# Altium schematic symbol library PSSL3.SchLib: 176 symbols (part 1 of 3)
Pins are listed as number, name and electrical type; pins without a type are passive.

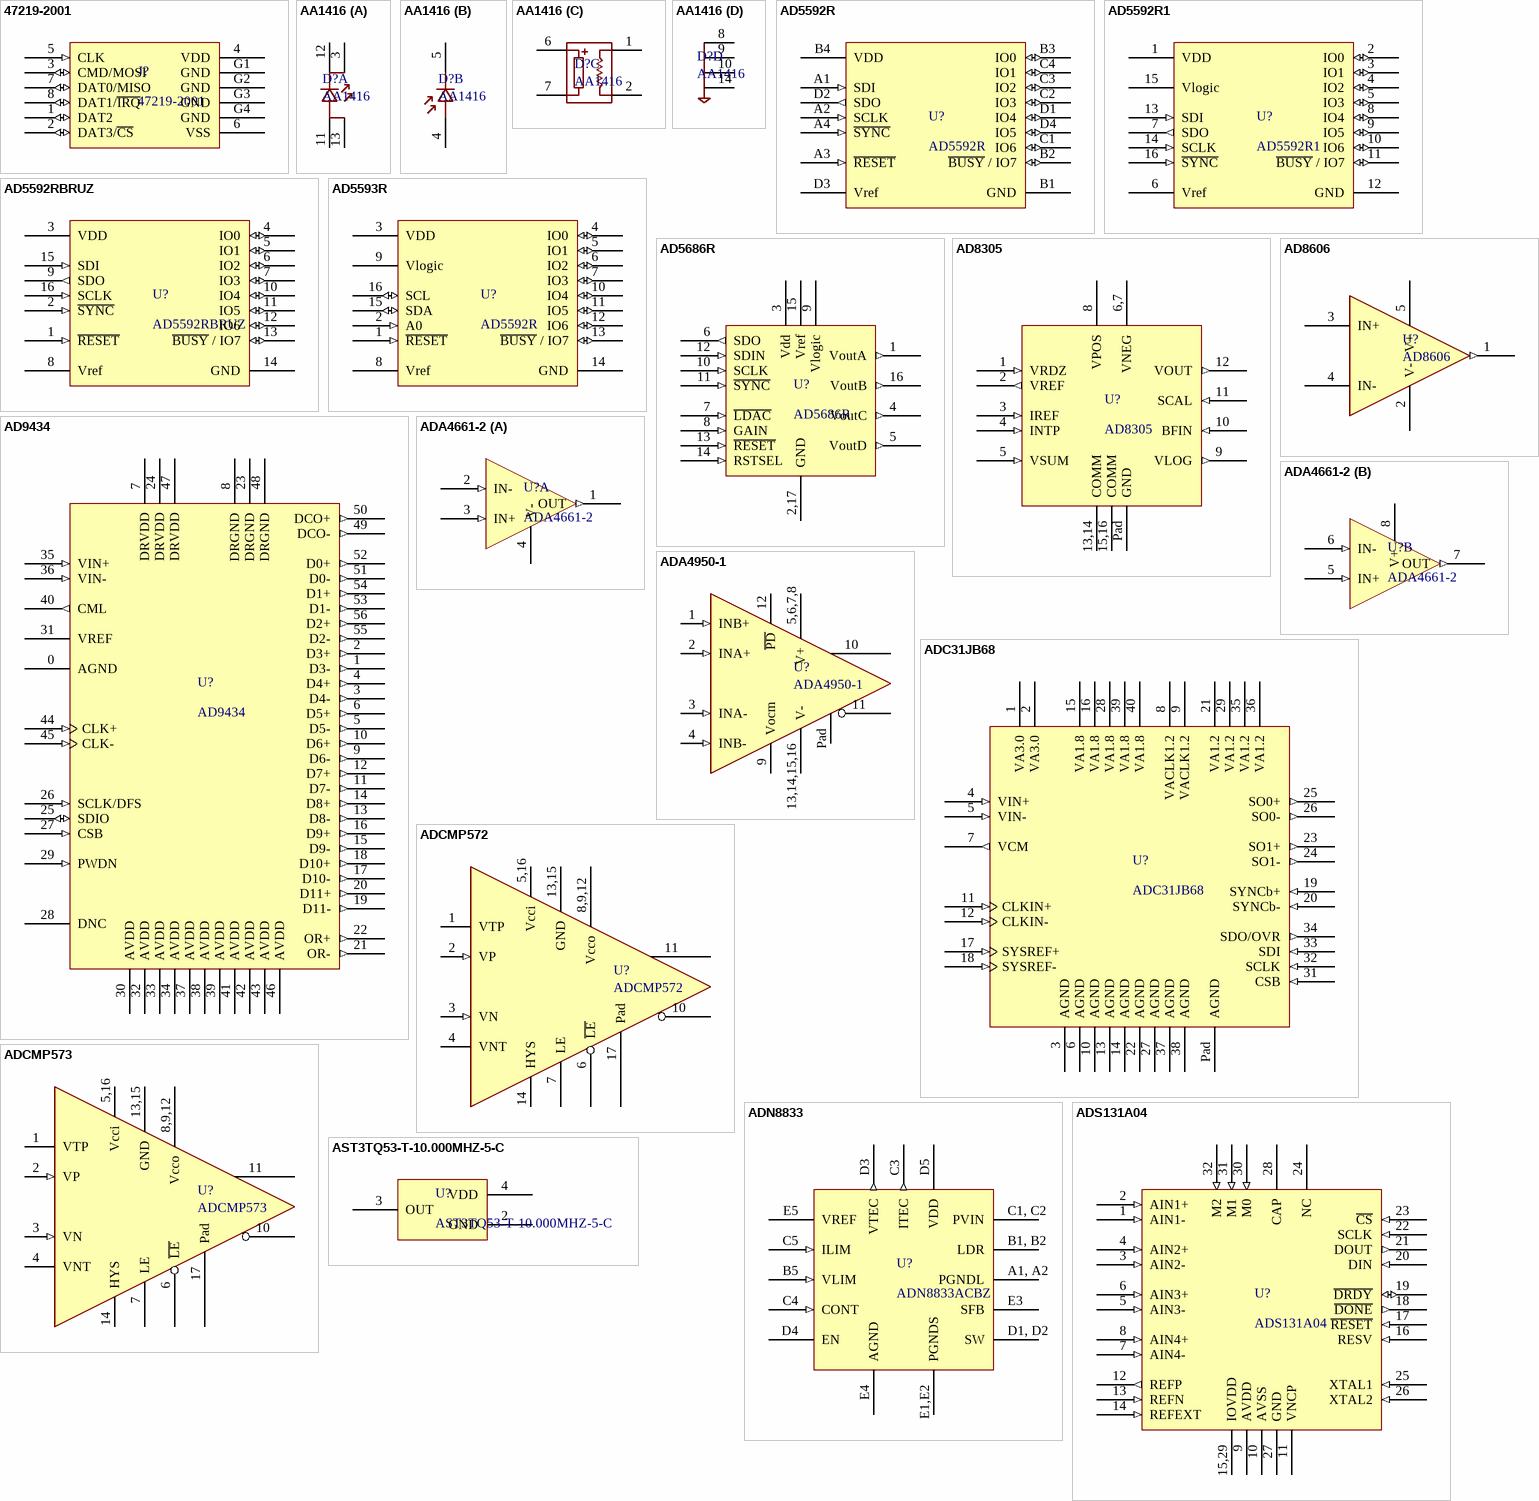
[diagram p0: symbols 47219-2001 to AST3TQ53-T-10.000MHZ-5-C]

## 47219-2001
designator J?
microSD Card Connector, Hinge Type; Ref: 47219-2001
footprint 47219-2001 (MOLEX 47219-2001)
pins: 1 DAT2 (io) "Enable auto restart", 2 DAT3/~{CS} (io) "Output Fault Indicator", 3 CMD/MOSI (io) "Output Fault Indicator", 4 VDD (power) "Output Fault Indicator", 5 CLK (in) "Output Fault Indicator", 6 VSS (power) "Output Fault Indicator", 7 DAT0/MISO (io) "Output Fault Indicator", 8 DAT1/~{IRQ} (io) "Output Fault Indicator", G1 GND (power) "Ground", G2 GND (power) "Ground", G3 GND (power) "Ground", G4 GND (power) "Ground"

## AA1416
designator D?
201 3.6V 250mW Zener Diode; Ref: AA1416
footprint GH High Power DFB Laser AA1401 (Laser Pulser)
part A pins: 3, 11, 12, 13
part B pins: 4, 5
part C pins: 1, 2, 6, 7
part D pins: 8, 9, 10, 14

## AD5592R
designator U?
8-Channel, 12-Bit, Configurable ADC/DAC with On-Chip Reference, SPI Interface; Ref: AD5592R
footprint BGA 16 3 (4x4 BGA)
footprint LFCSP CP 16 2 (Analog devive package LFCSP CP 16 2); pin to pad A1>15 A2>16 A3>1 A4>2 B1>14 B2>13 B3>4 B4>3 C1>12 C2>7 C3>6 C4>5 D1>10 D2>9 D3>8 D4>11
pins: A1 SDI (in) "Polarity selection", A2 SCLK (in) "Polarity selection", A3 ~{RESET} (in) "Polarity selection", A4 ~{SYNC} (in) "Polarity selection", B1 GND (power) "Polarity selection", B2 ~{BUSY} / IO7 (io) "Polarity selection", B3 IO0 (io) "Polarity selection", B4 VDD (power) "Polarity selection", C1 IO6 (io) "Polarity selection", C2 IO3 (io) "Polarity selection", C3 IO2 (io) "Polarity selection", C4 IO1 (io) "Polarity selection", D1 IO4 (io) "Polarity selection", D2 SDO (out) "Polarity selection", D3 Vref (hiz) "Polarity selection", D4 IO5 (io) "Polarity selection"

## AD5592R1
designator U?
8-Channel, 12-Bit, Configurable ADC/DAC with On-Chip Reference, SPI Interface; Ref: AD5592R1
footprint LFCSP CP 16 2 (Analog devive package LFCSP CP 16 2); pin to pad 1>3 2>4 3>5 4>6 5>7 6>8 7>9 8>10 9>11 10>12 11>13 12>14 13>15 14>16 16>2
pins: 1 VDD (power) "Polarity selection", 2 IO0 (io) "Polarity selection", 3 IO1 (io) "Polarity selection", 4 IO2 (io) "Polarity selection", 5 IO3 (io) "Polarity selection", 6 Vref (hiz) "Polarity selection", 7 SDO (out) "Polarity selection", 8 IO4 (io) "Polarity selection", 9 IO5 (io) "Polarity selection", 10 IO6 (io) "Polarity selection", 11 ~{BUSY} / IO7 (io) "Polarity selection", 12 GND (power) "Polarity selection", 13 SDI (in) "Polarity selection", 14 SCLK (in) "Polarity selection", 15 Vlogic (power) "Polarity selection", 16 ~{SYNC} (in) "Polarity selection"

## AD5592RBRUZ
designator U?
8-Channel, 12-Bit, Configurable ADC/DAC with On-Chip Reference, SPI Interface, TSSOP; Ref: AD5592RBRUZ
pins: 1 ~{RESET} (in) "Polarity selection", 2 ~{SYNC} (in) "Polarity selection", 3 VDD (power) "Polarity selection", 4 IO0 (io) "Polarity selection", 5 IO1 (io) "Polarity selection", 6 IO2 (io) "Polarity selection", 7 IO3 (io) "Polarity selection", 8 Vref (hiz) "Polarity selection", 9 SDO (out) "Polarity selection", 10 IO4 (io) "Polarity selection", 11 IO5 (io) "Polarity selection", 12 IO6 (io) "Polarity selection", 13 ~{BUSY} / IO7 (io) "Polarity selection", 14 GND (power) "Polarity selection", 15 SDI (in) "Polarity selection", 16 SCLK (in) "Polarity selection"

## AD5593R
designator U?, comment AD5592R
8-Channel, 12-Bit, Configurable ADC/DAC with On-Chip Reference, I2C Interface; Ref: AD5592R
footprint TSSOP16
pins: 1 ~{RESET} (in) "Polarity selection", 2 A0 (in) "Polarity selection", 3 VDD (power) "Polarity selection", 4 IO0 (io) "Polarity selection", 5 IO1 (io) "Polarity selection", 6 IO2 (io) "Polarity selection", 7 IO3 (io) "Polarity selection", 8 Vref (hiz) "Polarity selection", 9 Vlogic (power) "Polarity selection", 10 IO4 (io) "Polarity selection", 11 IO5 (io) "Polarity selection", 12 IO6 (io) "Polarity selection", 13 ~{BUSY} / IO7 (io) "Polarity selection", 14 GND (power) "Polarity selection", 15 SDA (io) "Polarity selection", 16 SCL (io) "Polarity selection"

## AD5686R
designator U?
Quad, 16-Bit DAC with 2 ppm/°C Reference, SPI Interface; Ref: AD5686R
footprint LFCSP CP 16 2 (Analog devive package LFCSP CP 16 2)
pins: 1 VoutA (out), 2,17 GND (power) "Power input", 3 Vdd (power) "Polarity selection", 4 VoutC (out), 5 VoutD (out), 6 SDO (out) "Polarity selection", 7 ~{LDAC} (in) "Polarity selection", 8 GAIN (in) "Polarity selection", 9 Vlogic (power) "Polarity selection", 10 SCLK (in) "Polarity selection", 11 ~{SYNC} (in) "Polarity selection", 12 SDIN (in) "Polarity selection", 13 ~{RESET} (in) "Polarity selection", 14 RSTSEL (in) "Polarity selection", 15 Vref (power) "Polarity selection", 16 VoutB (out), 17 GND (power) "Power input"

## AD8305
designator U?
100 dB Range (10 nA to 1 mA) Logarithmic Converter; Ref: AD8305
footprint LFCSP CP 16 2 (Analog devive package LFCSP CP 16 2)
pins: 1 VRDZ (in) "Polarity selection", 2 VREF (out) "Polarity selection", 3 IREF (in) "Polarity selection", 4 INTP (in) "Polarity selection", 5 VSUM (in) "Polarity selection", 6,7 VNEG (power) "Polarity selection", 8 VPOS (power) "Polarity selection", 9 VLOG (out), 10 BFIN (in), 11 SCAL (in), 12 VOUT (out), 13,14 COMM (power) "Power input", 15,16 COMM (power) "Power input", Pad GND (power) "Power input"

## AD8606
designator U?
Precision, Low Noise, CMOS, Rail-to-Rail, Input/Output Operational Amplifiers; Ref: AD8606
footprint TSOT-23-5
pins: 1 OUT (out), 2 V-, 3 IN+ (hiz), 4 IN- (hiz), 5 V+

## AD9434
designator U?
Single 12-Bit, 370 MSPS/500 MSPS, 1.8 V Analog-to-Digital Converter; Ref: AD9434
footprint LFCSP CP 56 5 (Analog devive package LFCSP CP 56 5)
pins: 0 AGND (power) "3.0V Analog Power", 1 D3- (out) "Data Lane 0 +", 2 D3+ (out) "Data Lane 0 +", 3 D4- (out) "Data Lane 0 +", 4 D4+ (out) "Data Lane 0 +", 5 D5- (out) "Data Lane 0 +", 6 D5+ (out) "Data Lane 0 +", 7 DRVDD (power) "3.0V Analog Power", 8 DRGND (power) "3.0V Analog Power", 9 D6- (out) "Data Lane 0 +", 10 D6+ (out) "Data Lane 0 +", 11 D7- (out) "Data Lane 0 +", 12 D7+ (out) "Data Lane 0 +", 13 D8- (out) "Data Lane 0 +", 14 D8+ (out) "Data Lane 0 +", 15 D9- (out) "Data Lane 0 +", 16 D9+ (out) "Data Lane 0 +", 17 D10- (out) "Data Lane 0 +", 18 D10+ (out) "Data Lane 0 +", 19 D11- (out) "Data Lane 0 +", 20 D11+ (out) "Data Lane 0 +", 21 OR- (out) "Data Lane 0 +", 22 OR+ (out) "Data Lane 0 +", 23 DRGND (power) "3.0V Analog Power", 24 DRVDD (power) "3.0V Analog Power", 25 SDIO (io) "SPI Data In", 26 SCLK/DFS (in) "SPI Clock", 27 CSB (in) "SPI CS", 28 DNC (power) "Analog Ground", 29 PWDN (in) "SPI Data In", 30 AVDD (power) "3.0V Analog Power", 31 VREF (power) "3.0V Analog Power", 32 AVDD (power) "3.0V Analog Power", 33 AVDD (power) "3.0V Analog Power", 34 AVDD (power) "3.0V Analog Power", 35 VIN+ (in) "Analog In +", 36 VIN- (in) "Analog In -", 37 AVDD (power) "3.0V Analog Power", 38 AVDD (power) "3.0V Analog Power", 39 AVDD (power) "3.0V Analog Power", 40 CML (out) "Common Mode Reference", 41 AVDD (power) "3.0V Analog Power", 42 AVDD (power) "3.0V Analog Power", 43 AVDD (power) "3.0V Analog Power", 44 CLK+ (in) "Clock Input +", 45 CLK- (in) "Clock Input -", 46 AVDD (power) "3.0V Analog Power", 47 DRVDD (power) "3.0V Analog Power", 48 DRGND (power) "3.0V Analog Power", 49 DCO- (out) "Data Lane 0 +", 50 DCO+ (out) "Data Lane 0 +", 51 D0- (out) "Data Lane 0 +", 52 D0+ (out) "Data Lane 0 +", 53 D1- (out) "Data Lane 0 +", 54 D1+ (out) "Data Lane 0 +", 55 D2- (out) "Data Lane 0 +", 56 D2+ (out) "Data Lane 0 +"

## ADA4661-2
designator U?
18 V, Precision, 725 μA, 4 MHz, CMOS RRIO Operational Amplifier; Ref: ADA4661-2
footprint TDFN8 Ti (Ti package 8-DFN NGQ package)
part A pins: 1 OUT (out) "Power input", 2 IN- (in) "Polarity selection", 3 IN+ (in) "Polarity selection", 4 V- (power) "Power input", 9 V- (power) "Power input"
part B pins: 5 IN+ (in) "Polarity selection", 6 IN- (in) "Polarity selection", 7 OUT (out) "Power input", 8 V+ (power) "Power input"

## ADA4950-1
designator U?
Low Power, Selectable Gain Differential ADC Driver, G = 1, 2, 3; Ref: ADCMP572
footprint LFCSP CP 16 2 (Analog devive package LFCSP CP 16 2)
pins: 1 INB+ (in), 2 INA+ (in), 3 INA- (in), 4 INB- (in), 5,6,7,8 V+ (power), 6 V+ (power), 7 V+ (power), 8 V+ (power), 9 Vocm (power), 10 OUT, 11 ~{OUT}, 12 ~{PD} (power), 13,14,15,16 V-, 14 V-, 15 V-, 16 V-, Pad (power)

## ADC31JB68
designator U?
Single Channel 16-bit 500 Msps Analog to Digital Converter; Ref: ADC31JB68
pins: 1 VA3.0 (power) "3.0V Analog Power", 2 VA3.0 (power) "3.0V Analog Power", 3 AGND (power) "Analog Ground", 4 VIN+ (in) "Analog In +", 5 VIN- (in) "Analog In -", 6 AGND (power) "Analog Ground", 7 VCM (out) "Common Mode Reference", 8 VACLK1.2 (power) "1.2V Analog Power", 9 VACLK1.2 (power) "1.2V Analog Power", 10 AGND (power) "Analog Ground", 11 CLKIN+ (in) "Clock Input +", 12 CLKIN- (in) "Clock Input -", 13 AGND (power) "Analog Ground", 14 AGND (power) "Analog Ground", 15 VA1.8 (power) "1.8V Analog Power", 16 VA1.8 (power) "1.8V Analog Power", 17 SYSREF+ (in) "Data Ref Input +", 18 SYSREF- (in) "Data Ref Input -", 19 SYNCb+ (in) "Data Sync Input +", 20 SYNCb- (in) "Data Sync Input +", 21 VA1.2 (power) "1.2V Analog Power", 22 AGND (power) "Analog Ground", 23 SO1+ (out) "Data Lane 1 +", 24 SO1- (out) "Data Lane 1 -", 25 SO0+ (out) "Data Lane 0 +", 26 SO0- (out) "Data Lane 0 -", 27 AGND (power) "Analog Ground", 28 VA1.8 (power) "1.8V Analog Power", 29 VA1.2 (power) "1.2V Analog Power", 31 CSB (in) "SPI CS", 32 SCLK (in) "SPI Clock", 33 SDI (in) "SPI Data In", 34 SDO/OVR (out) "SPI Data In", 35 VA1.2 (power) "1.2V Analog Power", 36 VA1.2 (power) "1.2V Analog Power", 37 AGND (power) "Analog Ground", 38 AGND (power) "Analog Ground", 39 VA1.8 (power) "1.8V Analog Power", 40 VA1.8 (power) "1.8V Analog Power", Pad AGND (power) "Analog Ground"

## ADCMP572
designator U?
Single-supply SiGe fast comparator; Ref: ADCMP572
footprint LFCSP CP 16 2 (Analog devive package LFCSP CP 16 2)
pins: 1 VTP, 2 VP (in), 3 VN (in), 4 VNT, 5,16 Vcci, 6 ~{LE}, 7 LE, 8,9,12 Vcco (power), 9 Vcco (power), 10 ~{Q}, 11 Q, 12 Vcco (power), 13,15 GND, 14 HYS, 15 GND, 16 Vcci, 17 Pad (power)

## ADCMP573
designator U?
Single-supply SiGe fast comparator; Ref: ADCMP573
footprint LFCSP CP 16 2 (Analog devive package LFCSP CP 16 2)
pins: 1 VTP, 2 VP (in), 3 VN (in), 4 VNT, 5,16 Vcci, 6 ~{LE}, 7 LE, 8,9,12 Vcco (power), 9 Vcco (power), 10 ~{Q}, 11 Q, 12 Vcco (power), 13,15 GND, 14 HYS, 15 GND, 16 Vcci, 17 Pad (power)

## ADN8833
designator U?, comment ADN8833ACBZ
Ultra  compact, 1 A Thermoelectric Cooler Driver for Digital Control Systems; Ref: ADN8833ACBZ
footprint BGA 25 7
pins: A1, A2 PGNDL (power) "Power input", B1, B2 LDR (power) "Power input", B5 VLIM (in) "Polarity selection", C1, C2 PVIN (power) "Power input", C3 ITEC (out) "Output Fault Indicator", C4 CONT (in) "Polarity selection", C5 ILIM (in) "Polarity selection", D1, D2 SW (power) "Power input", D3 VTEC (out) "Output Fault Indicator", D4 EN (power) "Power input", D5 VDD (power) "Power input", E1,E2 PGNDS (power) "Power input", E3 SFB (power) "Power input", E4 AGND (power) "Power input", E5 VREF (power) "Power input"

## ADS131A04
designator U?
4-Channel, 24-Bit, 128-kSPS, Simultaneous-Sampling, Delta-Sigma ADC; Ref: ADS131A04
footprint QFP32
pins: 1 AIN1- (in) "Analog In +", 2 AIN1+ (in) "Analog In -", 3 AIN2- (in) "Analog In +", 4 AIN2+ (in) "Analog In -", 5 AIN3- (in) "Analog In +", 6 AIN3+ (in) "Analog In -", 7 AIN4- (in) "Analog In +", 8 AIN4+ (in) "Analog In -", 9 AVDD (power) "Analog Ground", 10 AVSS (power) "Analog Ground", 11 VNCP (power) "Analog Ground", 12 REFP (out) "Clock Input +", 13 REFN (in) "Clock Input +", 14 REFEXT (in) "Analog Ground", 15,29 IOVDD (power) "Analog Ground", 16 RESV (in) "Analog Ground", 17 ~{RESET} (in) "SPI CS", 18 ~{DONE} (out) "SPI CS", 19 ~{DRDY} (io) "SPI CS", 20 DIN (in) "SPI Data In", 21 DOUT (out) "SPI Data In", 22 SCLK (in) "SPI Clock", 23 ~{CS} (in) "SPI CS", 24 NC "SPI CS", 25 XTAL1 (in) "Clock Input +", 26 XTAL2 (in) "XTAL2/CLK", 27 GND (power) "Analog Ground", 28 CAP "SPI CS", 29 IOVDD (power) "Analog Ground", 30 M0 (in) "SPI CS", 31 M1 (in) "SPI CS", 32 M2 (in) "SPI CS"

## AST3TQ53-T-10.000MHZ-5-C
designator U?
±50ppb 10MHz LVCMOS SMD TCXO; Ref: AST3TQ53-T-10.000MHZ-5-C; Digikey: 535-12955-ND
footprint TCXO (Abracon TCXO)
pins: 2 GND (power) "Power input", 3 OUT (power) "Power input", 4 VDD (power) "Power input"

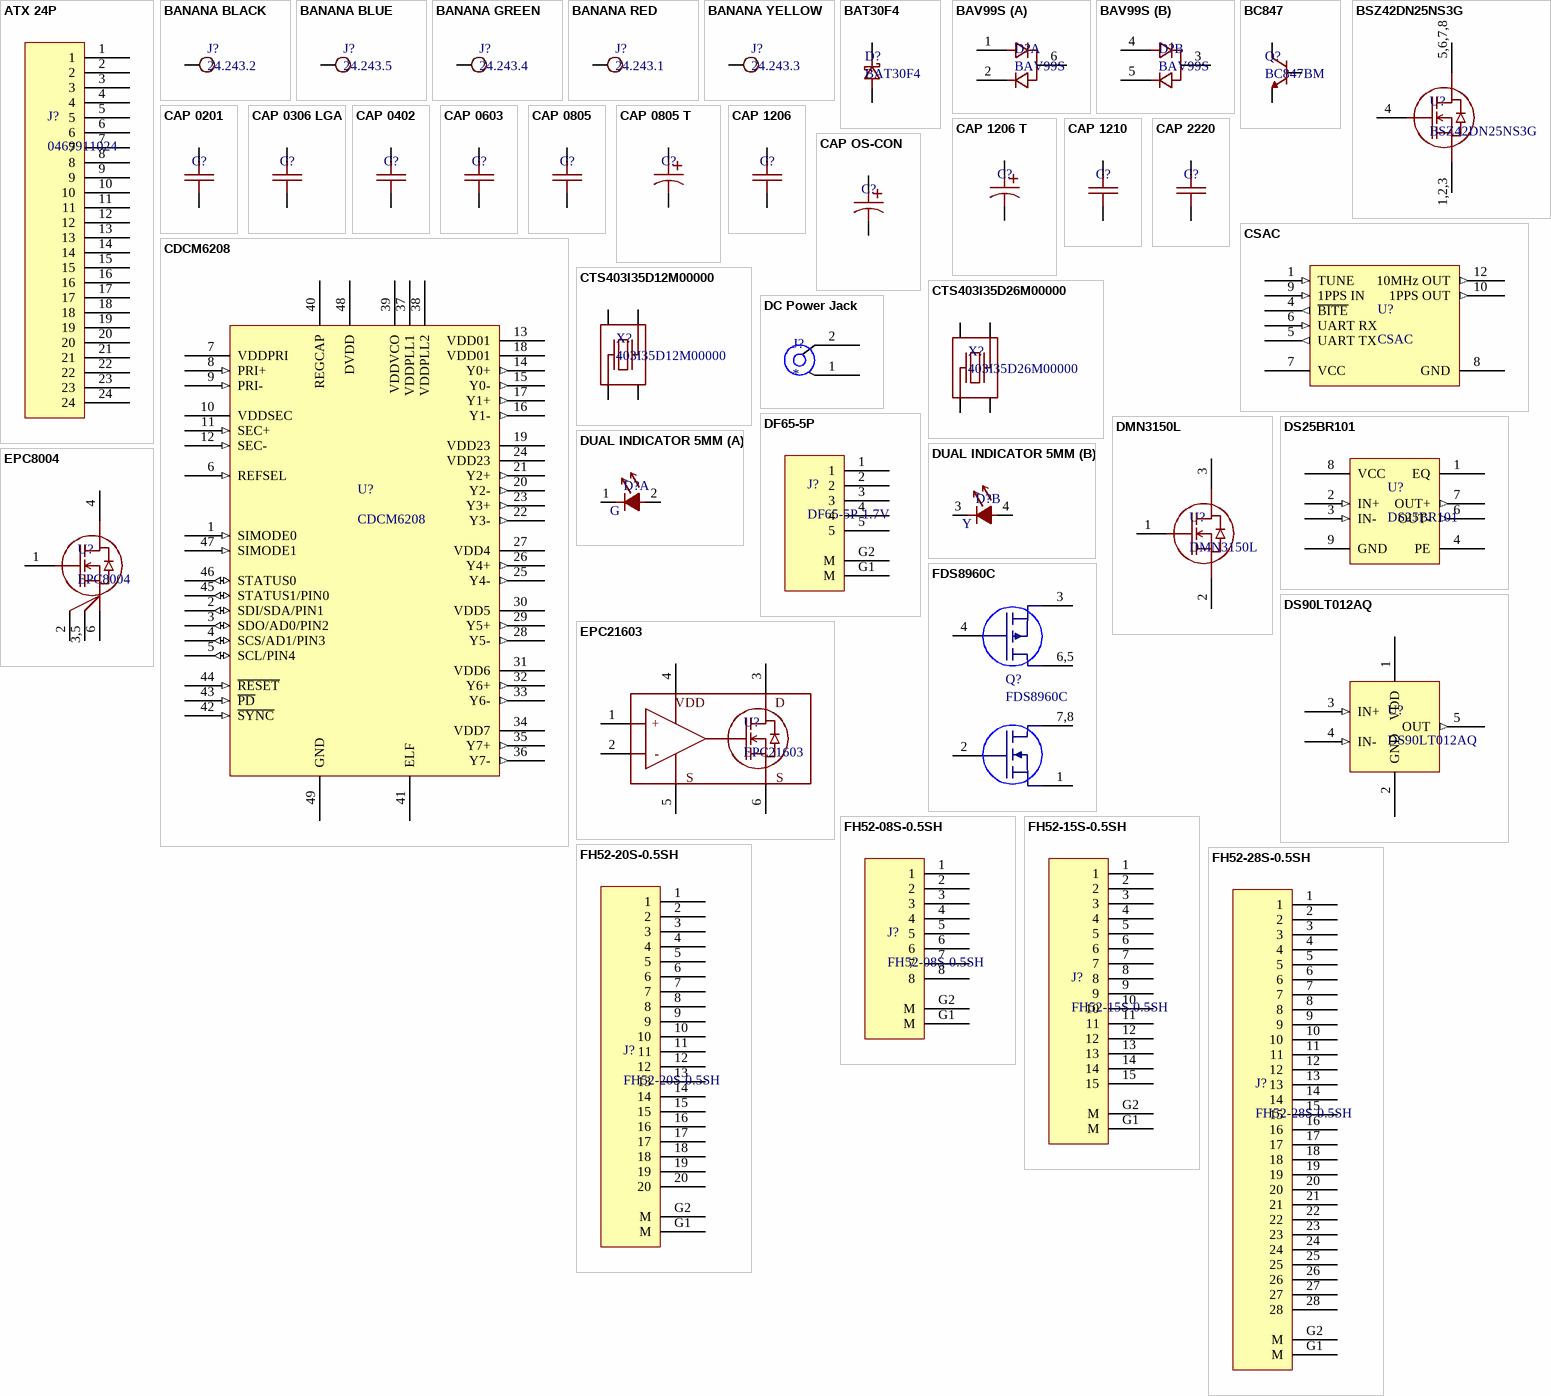
[diagram p1: symbols ATX 24P to FH52-28S-0.5SH]

## ATX 24P
designator J?, comment 0469911024
Molex MiniFit Jr 24 pin, ATX power connector; Ref: 0469911024
footprint ATX 24P POWER (Molex MiniFit Jr 0469911024)
pins: 1 (power) "Output Fault Indicator", 2 (power) "Ground", 3 (power) "Ground", 4 (power) "Ground", 5 (power) "Ground", 6 (power) "Output Fault Indicator", 7 (power) "Ground", 8 (power) "Ground", 9 (power) "Output Fault Indicator", 10 (power) "Ground", 11 (power) "Ground", 12 (power) "Ground", 13 (power) "Output Fault Indicator", 14 (power) "Ground", 15 (power) "Ground", 16 (power) "Ground", 17 (power) "Ground", 18 (power) "Output Fault Indicator", 19 (power) "Ground", 20 (power) "Ground", 21 (power) "Output Fault Indicator", 22 (power) "Ground", 23 (power) "Ground", 24 (power) "Ground"

## BANANA BLACK
designator J?, comment 24.243.2  (no BOM)
Banana jack, PCB mount right angle; Ref: 24.243.2
footprint BANANA BK (Multicomp 24.243.2)
pins: 1 TP

## BANANA BLUE
designator J?, comment 24.243.5  (no BOM)
Banana jack, PCB mount right angle; Ref: 24.243.5
footprint BANANA BU (Multicomp 24.243.5)
pins: 1 TP

## BANANA GREEN
designator J?, comment 24.243.4  (no BOM)
Banana jack, PCB mount right angle; Ref: 24.243.4
footprint BANANA GR (Multicomp 24.243.4)
pins: 1 TP

## BANANA RED
designator J?, comment 24.243.1  (no BOM)
Banana jack, PCB mount right angle; Ref: 24.243.1
footprint BANANA RD (Multicomp 24.243.1)
pins: 1 TP

## BANANA YELLOW
designator J?, comment 24.243.3  (no BOM)
Banana jack, PCB mount right angle; Ref: 24.243.3
footprint BANANA YL (Multicomp 24.243.3)
pins: 1 TP

## BAT30F4
designator D?
201 30V 300mA Schottky Diode; Value: 3V6; Digikey ref: 497-15253-6-ND; Ref: BAT30F4
footprint 0201 Diode (SMD 0201 Diode)
pins: 1, 2

## BAV99S
designator D?
High-speed switching diode; Ref: BAV99S
footprint SC88 (SC88 - SOT363)
part A pins: 1, 2, 6
part B pins: 3, 4, 5

## BC847
designator Q?, comment BC847BM
45 V, 100 mA NPN general-purpose transistor; Ref: BC847BM
footprint SOT883B (NXP SOT883B package)
pins: 1, 2, 3

## BSZ42DN25NS3G
designator U?
Power-Transistor; Ref: BSZ42DN25NS3G
footprint PG-TSDSON-8 (Infineon FET PG-TSDSON-8)
pins: 1,2,3 S (power) "Ground", 2 S (power) "Ground", 3 S (power) "Ground", 4 G (power) "Power input", 5,6,7,8 D (power) "Power input", 6 D (power) "Power input", 7 D (power) "Power input", 8 D (power) "Power input"

## CAP 0201
designator C?
201 Capacitor
footprint 0201 B (SMD 0201)
pins: 1, 2

## CAP 0306 LGA
designator C?
306 LGA Capacitor
footprint 0306 LGA (SMD 0306)
pins: 1, 2

## CAP 0402
designator C?
402 Capacitor
footprint 0402 B (SMD 0402 blue)
pins: 1, 2

## CAP 0603
designator C?
603 Capacitor
footprint 0603 B (SMD 0603 blue)
pins: 1, 2

## CAP 0805
designator C?
805 Capacitor
footprint 0805 B (SMD 0805 blue)
pins: 1, 2

## CAP 0805 T
designator C?
805 Tantalum Capacitor; Ref: *; Voltage: *
footprint 0805 Y (SMD 0805 Yellow)
pins: 1, 2

## CAP 1206
designator C?
1206 Capacitor
footprint 1206 B (SMD 1206)
pins: 1, 2

## CAP 1206 T
designator C?
1206 Tantalum Capacitor; Ref: *; Voltage: *
footprint 1206 Y (SMD 1206)
pins: 1, 2

## CAP 1210
designator C?
1210 Capacitor
footprint 1210 (SMD 1210)
pins: 1, 2

## CAP 2220
designator C?
2220 Capacitor
footprint 2220 B (SMD 1206)
pins: 1, 2

## CAP OS-CON
designator C?
OS-CON Polymer capacitor; Ref: *; Voltage: *
footprint OS-CON B6 (Panasonic OS-CON B6)
footprint OS-CON C8 (Panasonic OS-CON C8)
pins: 1, 2

## CDCM6208
designator U?
2:8 Clock Generator,  Jitter Cleaner With Fractional Dividers; Ref: CDCM6208
footprint PVQFN-N48 (Texas instrument package PVQFN-N48)
pins: 1 SIMODE0 (in) "SPI Clock", 2 SDI/SDA/PIN1 (io) "SPI Data In", 3 SDO/AD0/PIN2 (io) "SPI Data In", 4 SCS/AD1/PIN3 (io) "SPI Data In", 5 SCL/PIN4 (io) "SPI Data In", 6 REFSEL (in) "SPI Data In", 7 VDDPRI (power) "3.0V Analog Power", 8 PRI+ (in) "Analog In +", 9 PRI- (in) "Analog In -", 10 VDDSEC (power) "3.0V Analog Power", 11 SEC+ (in) "Analog In +", 12 SEC- (in) "Analog In -", 13 VDD01 (power) "3.0V Analog Power", 14 Y0+ (out) "Data Lane 0 +", 15 Y0- (out) "Data Lane 0 +", 16 Y1- (out) "Data Lane 0 +", 17 Y1+ (out) "Data Lane 0 +", 18 VDD01 (power) "3.0V Analog Power", 19 VDD23 (power) "3.0V Analog Power", 20 Y2- (out) "Data Lane 0 +", 21 Y2+ (out) "Data Lane 0 +", 22 Y3- (out) "Data Lane 0 +", 23 Y3+ (out) "Data Lane 0 +", 24 VDD23 (power) "3.0V Analog Power", 25 Y4- (out) "Data Lane 0 +", 26 Y4+ (out) "Data Lane 0 +", 27 VDD4 (power) "3.0V Analog Power", 28 Y5- (out) "Data Lane 0 +", 29 Y5+ (out) "Data Lane 0 +", 30 VDD5 (power) "3.0V Analog Power", 31 VDD6 (power) "3.0V Analog Power", 32 Y6+ (out) "Data Lane 0 +", 33 Y6- (out) "Data Lane 0 +", 34 VDD7 (power) "3.0V Analog Power", 35 Y7+ (out) "Data Lane 0 +", 36 Y7- (out) "Data Lane 0 +", 37 VDDPLL1 (power) "3.0V Analog Power", 38 VDDPLL2 (power) "3.0V Analog Power", 39 VDDVCO (power) "3.0V Analog Power", 40 REGCAP (power) "3.0V Analog Power", 41 ELF (power) "3.0V Analog Power", 42 ~{SYNC} (in) "SPI Clock", 43 ~{PD} (in) "SPI Clock", 44 ~{RESET} (in) "SPI Clock", 45 STATUS1/PIN0 (io) "Data Lane 0 +", 46 STATUS0 (io) "Data Lane 0 +", 47 SIMODE1 (in) "SPI Clock", 48 DVDD (power) "3.0V Analog Power", 49 GND (power) "3.0V Analog Power"

## CSAC
designator U?
Chip Scale Atomic Clock; Ref: CSAC
footprint CSAC (Chip Scale Atomic Clock)
pins: 1 TUNE (in) "Polarity selection", 4 ~{BITE} (out) "Polarity selection", 5 UART TX (out) "Polarity selection", 6 UART RX (in) "Polarity selection", 7 VCC (power) "Polarity selection", 8 GND (power) "Power input", 9 1PPS IN (in) "Polarity selection", 10 1PPS OUT (out) "Polarity selection", 12 10MHz OUT (out) "Polarity selection"

## CTS403I35D12M00000
designator X?, comment 403I35D12M00000
12MHz Crystal; Ref: 403I35D12M00000
footprint CTS 403 (CTS Model 403)
pins: 1, 2, 3, 4

## CTS403I35D26M00000
designator X?, comment 403I35D26M00000
26MHz Crystal; Ref: 403I35D26M00000
footprint CTS 403 (CTS Model 403)
pins: 1, 2, 3, 4

## DC Power Jack
designator J?
footprint POWER BARREL 2.1x5.5 (PJ-102A interconnect solution)
footprint Power Barrel 2.5x5 mm (Power Barrel 2.5x5 mm (IDxOD) PJ-04BH)
pins: 1 GND, 2

## DF65-5P
designator J?, comment DF65-5P-1.7V
Low Profile 5 Contacts Power Connector; Ref: DF65-5P-1.7V
footprint DF-65-5P (Hirose DF-65-5P)
pins: 1 (power) "Output Fault Indicator", 2 (power) "Ground", 3 (power) "Ground", 4 (power) "Ground", 5 (power) "Ground", G1 M (power) "Ground", G2 M (power) "Ground"

## DMN3150L
designator U?
Power-Transistor; Ref: DMN3150L
footprint SOT-23 (SOT-23 made for BAR66E6327)
pins: 1 G (power) "Power input", 2 S (power) "Ground", 3 D (power) "Power input"

## DS25BR101
designator U?
3.125 Gbps LVDS Buffer with Transmit Pre-Emphasis and Receive Equalization; Ref: DS25BR101
footprint TDFN8 Ti (Ti package 8-DFN NGQ package)
pins: 1 EQ (power) "Polarity selection", 2 IN+ (in) "Polarity selection", 3 IN- (in) "Polarity selection", 4 PE (power) "Polarity selection", 6 OUT- (out), 7 OUT+ (out), 8 VCC (power) "Polarity selection", 9 GND (power) "Power input"

## DS90LT012AQ
designator U?
Automotive LVDS Differential Line Receiver; Ref: DS90LT012AQ
footprint TSOT-23-5
pins: 1 VDD (power) "Polarity selection", 2 GND (power) "Power input", 3 IN+ (in) "Polarity selection", 4 IN- (in) "Polarity selection", 5 OUT (out)

## DUAL INDICATOR 5MM
designator D?  (value not drawn)
Dialight 552-0232F Indicator; Ref: 552-0232F
footprint Dialight 552-0232F
part A pins: 1, 2
part B pins: 3, 4
part A text: G
part B text: Y

## EPC8004
designator U?
GaN Enhancement Mode Power Transistor; Ref: EPC8004
footprint EPC8004 (EPC800x GaN Transistors)
pins: 1 G (power) "Power input", 2 Sd (power) "Ground", 3,5 S (power) "Ground", 4 D (power) "Power input", 6 Sub (power) "Ground"

## EPC21603
designator U?
GaN Enhancement Mode Power Transistor with Integrated Driver; Ref: EPC21603
footprint BGA-6 (EPC 6 pins BGA - EPC21603)
pins: 1 IN+ (power) "Power input", 2 IN- (power) "Ground", 3 D (power) "Power input", 4 VDD (power) "Ground", 5 S (power) "Ground", 6 S (power) "Ground"
text: +; -

## FDS8960C
designator Q?
MOSFET pair
footprint SO-8 (SO-8 large pads)
pins: 1, 2, 3, 4, 6,5, 7,8

## FH52-08S-0.5SH
designator J?
15 Contacts 0.5mm Pitch, 2mm Height, FPC/FFC ZIF Connector; Ref: FH52-08S-0.5SH
footprint FH52-8-0.5SH (15 pin FPC Connector)
pins: 1 (power) "Output Fault Indicator", 2 (power) "Ground", 3 (power) "Ground", 4 (power) "Ground", 5 (power) "Ground", 6 (power) "Output Fault Indicator", 7 (power) "Ground", 8 (power) "Ground", G1 M (power) "Ground", G2 M (power) "Ground"

## FH52-15S-0.5SH
designator J?
15 Contacts 0.5mm Pitch, 2mm Height, FPC/FFC ZIF Connector; Ref: FH52-15S-0.5SH
footprint FH52-15-0.5SH (15 pin FPC Connector)
pins: 1 (power) "Output Fault Indicator", 2 (power) "Ground", 3 (power) "Ground", 4 (power) "Ground", 5 (power) "Ground", 6 (power) "Output Fault Indicator", 7 (power) "Ground", 8 (power) "Ground", 9 (power) "Ground", 10 (power) "Ground", 11 (power) "Output Fault Indicator", 12 (power) "Ground", 13 (power) "Ground", 14 (power) "Ground", 15 (power) "Ground", G1 M (power) "Ground", G2 M (power) "Ground"

## FH52-20S-0.5SH
designator J?
20 Contacts 0.5mm Pitch, 2mm Height, FPC/FFC ZIF Connector; Ref: FH52-20S-0.5SH
footprint FH52-20-0.5SH (20 pin FPC Connector)
pins: 1 (power) "Output Fault Indicator", 2 (power) "Ground", 3 (power) "Ground", 4 (power) "Ground", 5 (power) "Ground", 6 (power) "Output Fault Indicator", 7 (power) "Ground", 8 (power) "Ground", 9 (power) "Ground", 10 (power) "Ground", 11 (power) "Output Fault Indicator", 12 (power) "Ground", 13 (power) "Ground", 14 (power) "Ground", 15 (power) "Ground", 16 (power) "Ground", 17 (power) "Output Fault Indicator", 18 (power) "Ground", 19 (power) "Ground", 20 (power) "Ground", G1 M (power) "Ground", G2 M (power) "Ground"

## FH52-28S-0.5SH
designator J?
28 Contacts 0.5mm Pitch, 2mm Height, FPC/FFC ZIF Connector; Ref: FH52-28S-0.5SH
footprint FH52-28-0.5SH (28 pin FPC Connector)
pins: 1 (power) "Output Fault Indicator", 2 (power) "Ground", 3 (power) "Ground", 4 (power) "Ground", 5 (power) "Ground", 6 (power) "Output Fault Indicator", 7 (power) "Ground", 8 (power) "Ground", 9 (power) "Ground", 10 (power) "Ground", 11 (power) "Output Fault Indicator", 12 (power) "Ground", 13 (power) "Ground", 14 (power) "Ground", 15 (power) "Ground", 16 (power) "Ground", 17 (power) "Output Fault Indicator", 18 (power) "Ground", 19 (power) "Ground", 20 (power) "Ground", 21 (power) "Ground", 22 (power) "Output Fault Indicator", 23 (power) "Ground", 24 (power) "Ground", 25 (power) "Ground", 26 (power) "Ground", 27 (power) "Ground", 28 (power) "Ground", G1 M (power) "Ground", G2 M (power) "Ground"

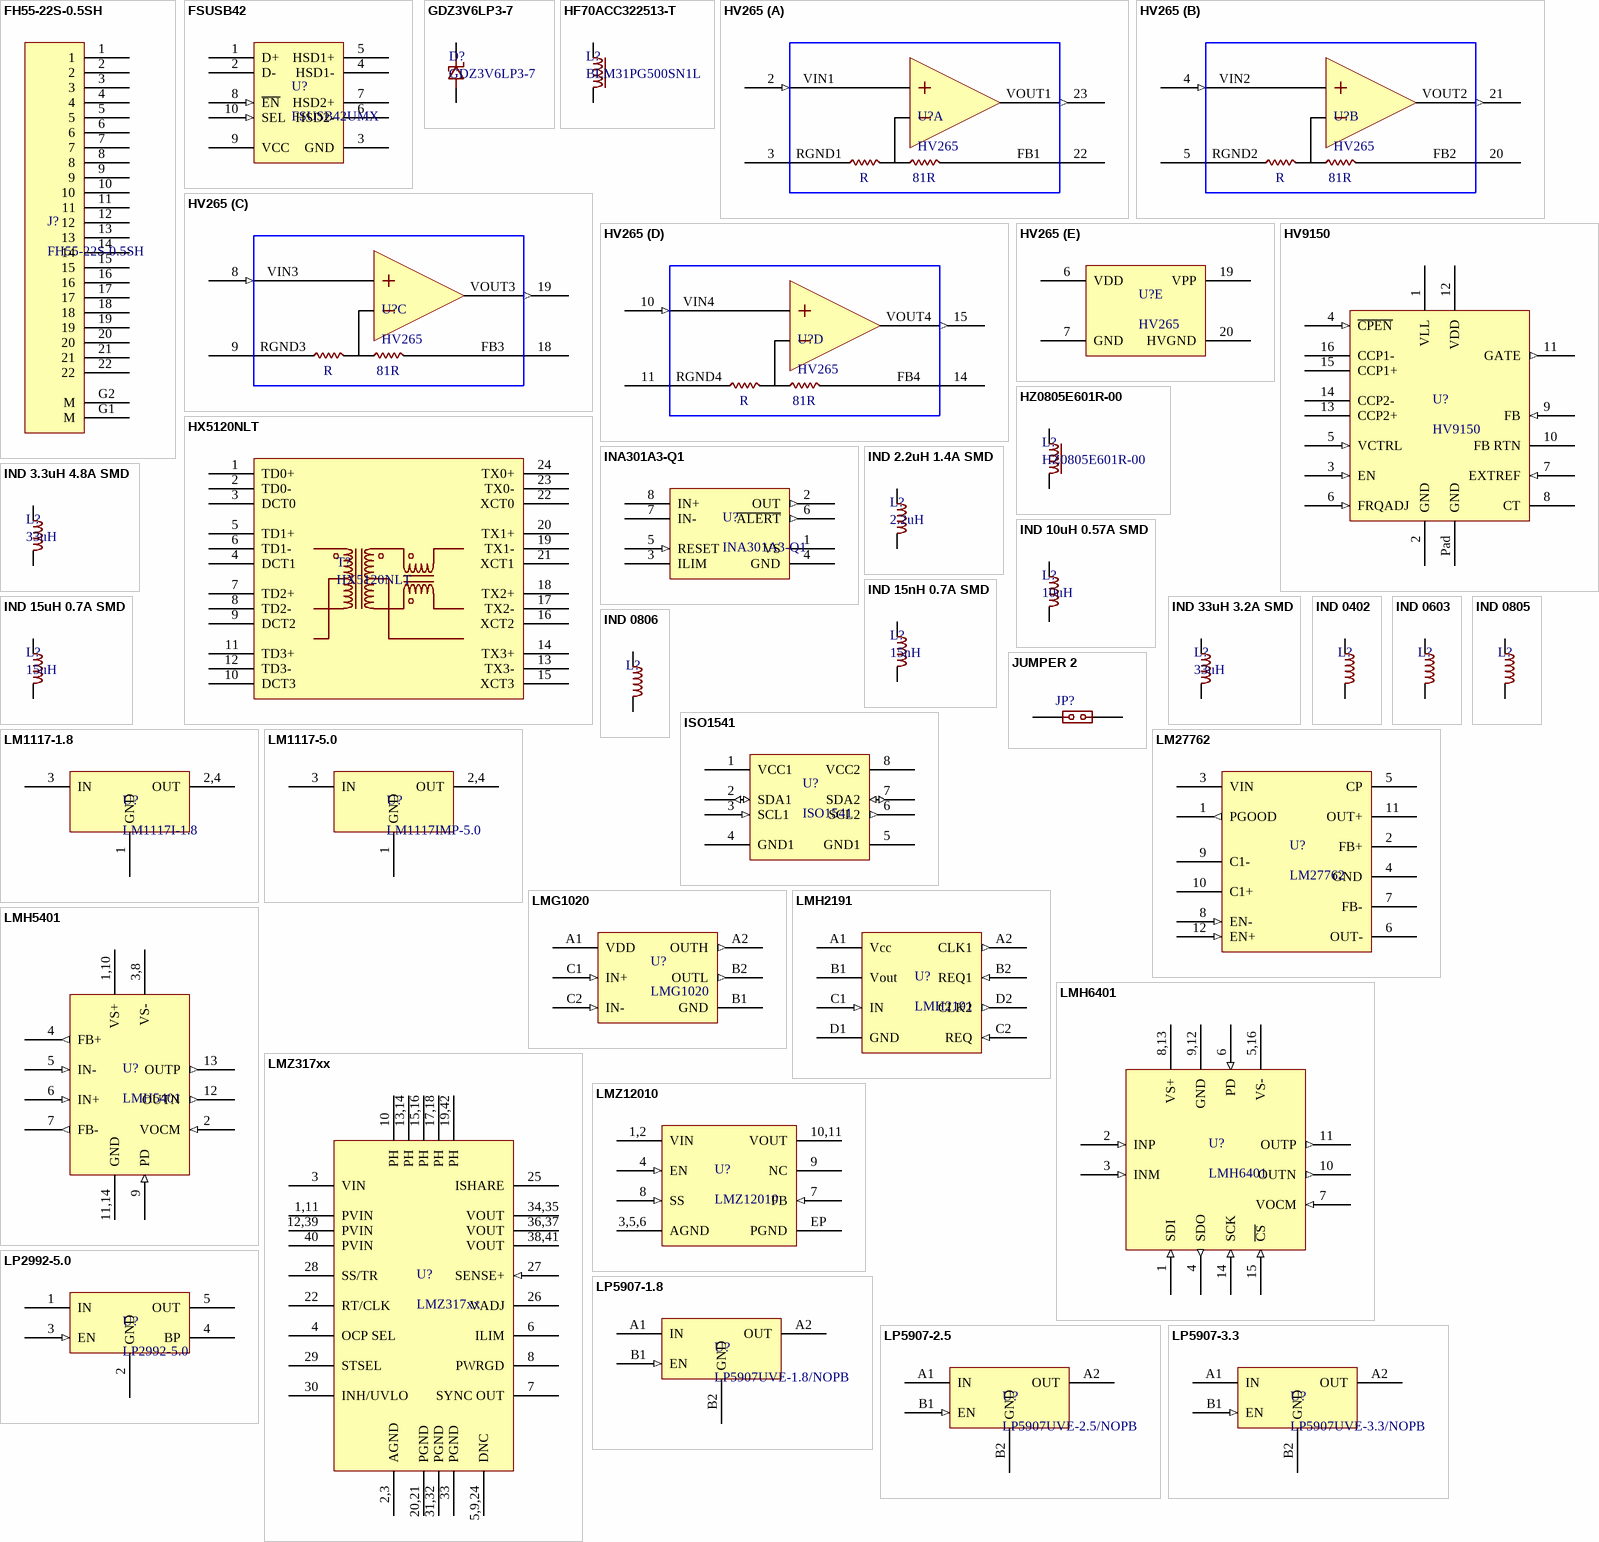
[diagram p2: symbols FH55-22S-0.5SH to LP5907-3.3]

## FH55-22S-0.5SH
designator J?
28 Contacts 0.5mm Pitch, 2mm Height, FPC/FFC ZIF Connector; Ref: FH55-22S-0.5SH
footprint FH55-22-0.5SH (22 pin High Speed FPC Connector)
pins: 1 (power) "Output Fault Indicator", 2 (power) "Ground", 3 (power) "Ground", 4 (power) "Ground", 5 (power) "Ground", 6 (power) "Output Fault Indicator", 7 (power) "Ground", 8 (power) "Ground", 9 (power) "Ground", 10 (power) "Ground", 11 (power) "Output Fault Indicator", 12 (power) "Ground", 13 (power) "Ground", 14 (power) "Ground", 15 (power) "Ground", 16 (power) "Ground", 17 (power) "Output Fault Indicator", 18 (power) "Ground", 19 (power) "Ground", 20 (power) "Ground", 21 (power) "Ground", 22 (power) "Output Fault Indicator", G1 M (power) "Ground", G2 M (power) "Ground"

## FSUSB42
designator U?, comment FSUSB42UMX
Low-Power, Two-Port, High-Speed, USB2.0 (480Mbps) UART Switch; Ref: FSUSB42UMX
footprint UMLP 10 (On Semi UMLP 10 pin)
pins: 1 D+ (power) "Polarity selection", 2 D- (power) "Polarity selection", 3 GND (power) "Power input", 4 HSD1- (power) "Polarity selection", 5 HSD1+ (power) "Polarity selection", 6 HSD2- (power) "Polarity selection", 7 HSD2+ (power) "Polarity selection", 8 ~{EN} (in) "Polarity selection", 9 VCC (power) "Polarity selection", 10 SEL (in) "Polarity selection"

## GDZ3V6LP3-7
designator D?
201 3.6V 250mW Zener Diode; Value: 3V6; Digikey ref: GDZ3V6LP3-7DICT-ND; Ref: GDZ3V6LP3-7
footprint 0201 Diode (SMD 0201 Diode)
pins: 1, 2

## HF70ACC322513-T
designator L?, comment BLM31PG500SN1L
Ferrite bead 52R 1210; Value: 600R; Ref: BLM31PG500SN1L; Digikey: 445-6185-1-ND
footprint 1210 (SMD 1210)
pins: 1, 2

## HV265
designator U?
Quad High-Voltage Amplifier Array; Ref: HV265
footprint TSSOP24
part A pins: 2 VIN1 (in) "Polarity selection", 3 RGND1 "Polarity selection", 22 FB1 "Polarity selection", 23 VOUT1 (out) "Power input"
part B pins: 4 VIN2 (in) "Polarity selection", 5 RGND2 "Polarity selection", 20 FB2 "Polarity selection", 21 VOUT2 (out) "Power input"
part C pins: 8 VIN3 (in) "Polarity selection", 9 RGND3 "Polarity selection", 18 FB3 "Polarity selection", 19 VOUT3 (out) "Power input"
part D pins: 10 VIN4 (in) "Polarity selection", 11 RGND4 "Polarity selection", 14 FB4 "Polarity selection", 15 VOUT4 (out) "Power input"
part E pins: 6 VDD (power) "Polarity selection", 7 GND (power) "Power input", 19 VPP (power) "Polarity selection", 20 HVGND (power) "Power input"
part A text: R; 81R
part B text: R; 81R
part C text: R; 81R
part D text: R; 81R

## HV9150
designator U?
High-Voltage Output Hysteretic-Mode Step-Up DC/DC Controller; Ref: HV9150
footprint LFCSP CP 16 2 (Analog devive package LFCSP CP 16 2)
pins: 1 VLL (power) "Power input", 2 GND (power) "Power input", 3 EN (in) "Polarity selection", 4 ~{CPEN} (in) "Polarity selection", 5 VCTRL (in) "Polarity selection", 6 FRQADJ (in) "Polarity selection", 7 EXTREF (in) "Polarity selection", 8 CT "Polarity selection", 9 FB (in) "Polarity selection", 10 FB RTN (power) "Polarity selection", 11 GATE (out) "Polarity selection", 12 VDD (power) "Power input", 13 CCP2+ (power) "Power input", 14 CCP2- (power) "Power input", 15 CCP1+ (power) "Power input", 16 CCP1- (power) "Power input", Pad GND (power) "Power input"

## HX5120NLT
designator T?
1000 Base-T PCMCIA transformer; Ref: HX5120NLT
footprint HL5120NL
pins: 1 TD0+, 2 TD0-, 3 DCT0, 4 DCT1, 5 TD1+, 6 TD1-, 7 TD2+, 8 TD2-, 9 DCT2, 10 DCT3, 11 TD3+, 12 TD3-, 13 TX3-, 14 TX3+, 15 XCT3, 16 XCT2, 17 TX2-, 18 TX2+, 19 TX1-, 20 TX1+, 21 XCT1, 22 XCT0, 23 TX0-, 24 TX0+

## HZ0805E601R-00
designator L?
Ferrite bead 600R 0805; Value: 600R; Ref: HZ0805E601R-00; Digikey: 240-1018-1-ND
footprint 0805 (SMD 0805)
pins: 1, 2

## INA301A3-Q1
designator U?
36-V, High-Speed, Zero-Drift, Voltage-Output, Current-Shunt Monitor with High-Speed, Overcurrent Comparator; Ref: INA301A3-Q1
footprint VSSOP-8 (VSSOP 8 pins)
pins: 1 VS (power) "Power input", 2 OUT (out) "Polarity selection", 3 ILIM (power) "Power input", 4 GND (power) "Power input", 5 RESET (in) "Polarity selection", 6 ~{ALERT} (out) "Polarity selection", 7 IN- (power) "Power input", 8 IN+ (power) "Power input"

## IND 2.2uH 1.4A SMD
designator L?, comment 2.2uH
Murata DFE201610C 2.2uH 1.4A Inductor; Value: 2.2uH; Ref: DFE201610C
footprint 2016 G (SMD 2016)
pins: 1, 2

## IND 3.3uH 4.8A SMD
designator L?, comment 33uH
Bourns SRP0520 3.3uH 4.8A Inductor; Ref: IHLP3232DZER330M11; Value: 33uH
footprint SRP0520 (Bourns SRP0520 series)
pins: 1, 2

## IND 10uH 0.57A SMD
designator L?, comment 10uH
Eaton SD3114-100-R 10uH 0.57A Inductor; Value: 10uH; Ref: SD3114-100-R
footprint SD3114 (Cooper SD3114 Series)
pins: 1, 2

## IND 15nH 0.7A SMD
designator L?, comment 15nH
Murata LQW18AN15NJ10D 15nH 0.7A Inductor; Value: 15nH; Ref: LQW18AN15NJ10D
footprint 0603 LQW (SMD 0603 LQW)
pins: 1, 2

## IND 15uH 0.7A SMD
designator L?, comment 15uH
Coilcraft PFL4514-153ME# 15uH 0.7A Inductor; Value: 15uH; Ref: PFL4514-153ME#
footprint PFL4510 (Coilcraft PFL4510)
pins: 1, 2

## IND 33uH 3.2A SMD
designator L?, comment 33uH
Vishay IHLP3232DZER330M11 33uH 3.2A Inductor; Value: 33uH; Ref: IHLP3232DZER330M11
footprint IHLP-3232DZ-11 (Visahy IHLP-3232DZ-11)
pins: 1, 2

## IND 0402
designator L?
Generic 402 Inductor
footprint 0402 G (SMD 0402 grey)
pins: 1, 2

## IND 0603
designator L?
Generic 603 Inductor; Ref: *
footprint 0603 LQW (SMD 0603 LQW)
pins: 1, 2

## IND 0805
designator L?
Generic 805 Inductor
footprint 0805 G (SMD 0805)
pins: 1, 2

## IND 0806
designator L?
Generic 806 Inductor
footprint 0806 (SMD 0806 Black)
pins: 1, 2

## ISO1541
designator U?
20V, 500mA, Ultralow Noise, Ultrahigh PSRR Linear Regulator; Ref: ISO1541
footprint SO-8 (SO-8 large pads)
pins: 1 VCC1 (power) "Power input", 2 SDA1 (io) "Output Fault Indicator", 3 SCL1 (in) "Output Fault Indicator", 4 GND1 (power) "Ground", 5 GND1 (power) "Ground", 6 SCL2 (out) "Output Fault Indicator", 7 SDA2 (io) "Output Fault Indicator", 8 VCC2 (power) "Power input"

## JUMPER 2
designator JP?  (value not drawn)
2.54mm Header 1x2; Ref: 2x1 2.54MM HEADER
footprint SIL02 (1x2 2.54mm header)
pins: 1, 2

## LM1117-1.8
designator U?, comment LM1117I-1.8
800-mA Low-Dropout Linear Regulator; Ref: LM1117I-1.8
footprint SOT-223 (SOT-123)
pins: 1 GND (power) "Ground", 2,4 OUT (power) "Power input", 3 IN (power) "Power input", 4 OUT (power) "Power input"

## LM1117-5.0
designator U?, comment LM1117IMP-5.0
800-mA Low-Dropout Linear Regulator; Ref: LM1117IMP-5.0
footprint SOT-223 (SOT-123)
pins: 1 GND (power) "Ground", 2,4 OUT (power) "Power input", 3 IN (power) "Power input", 4 OUT (power) "Power input"

## LM27762
designator U?
Low-Noise Positive and Negative Output Integrated Charge Pump Plus LDO; Ref: LM27762
footprint TDFN12 2x3 (Ti WSON12 package)
pins: 1 PGOOD (out), 2 FB+ (power), 3 VIN (power), 4 GND (power), 5 CP (power), 6 OUT- (power), 7 FB- (power), 8 EN- (in), 9 C1- (power), 10 C1+ (power), 11 OUT+ (power), 12 EN+ (in), 13 GND (power)

## LMG1020
designator U?
5V, 7A/5A Low Side GaN Driver With 60MHz/1ns Speed; Ref: LMG1020
footprint DSBGA-6 (Ti 6 DSBGA YFF0006)
pins: A1 VDD (power) "Power input", A2 OUTH (out) "Current limit setting", B1 GND (power) "Ground", B2 OUTL (out) "On/Off Control", C1 IN+ (in) "Output Fault Indicator", C2 IN- (in) "Output Fault Indicator"

## LMH2191
designator U?
1.8V Dual Channel 52 MHz Clock Tree Driver; Ref: LMH2191
footprint CSP-8 (Ti 8 CSBGA)
pins: A1 Vcc (power) "Power input", A2 CLK1 (out) "Output Fault Indicator", B1 Vout (power) "Output Fault Indicator", B2 REQ1 (in) "Output Fault Indicator", C1 IN (in) "Output Fault Indicator", C2 REQ (in) "Output Fault Indicator", D1 GND (power) "Ground", D2 CLK2 (out) "Output Fault Indicator"

## LMH5401
designator U?
8-GHz,  Low-Noise,  Low-Power,  Fully-Differential  Amplifie; Ref: LMH5401
footprint UQFN 14 (Texas Instrument package RMS0014A)
pins: 1,10 VS+ (power) "Power input", 2 VOCM (in), 3,8 VS- (power) "Power input", 4 FB+ (out) "Polarity selection", 5 IN- (in) "Polarity selection", 6 IN+ (in) "Polarity selection", 7 FB- (out) "Polarity selection", 9 PD (in) "Polarity selection", 11,14 GND (power) "Ground", 12 OUTN (out), 13 OUTP (out)

## LMH6401
designator U?
DC to 4.5 GHz, Fully-Differential,  Digital  Variable-Gain  Amplifier; Ref: LMH6401
footprint UQFN 16 (Texas Instrument package RMZ0016A)
pins: 1 SDI (in) "Polarity selection", 2 INP (in) "Polarity selection", 3 INM (in) "Polarity selection", 4 SDO (out) "Polarity selection", 5,16 VS- (power) "Power input", 6 PD (in) "Polarity selection", 7 VOCM (in), 8,13 VS+ (power) "Power input", 9,12 GND (power) "Ground", 10 OUTN (out), 11 OUTP (out), 14 SCK (in) "Polarity selection", 15 ~{CS} (in) "Polarity selection"

## LMZ317xx
designator U?
Power Module with 2.95-V to 17-V Input and Current Sharing in QFN Package; Ref: LMZ317xx
footprint PB3QFN (QFN42 for the LMZ317xx)
pins: 1,11 PVIN (power) "Power input", 2,3 AGND (power) "Power input", 3 VIN (power) "Power input", 4 OCP SEL "Power input", 5,9,24 DNC "Power input", 6 ILIM "Power input", 7 SYNC OUT "Output Fault Indicator", 8 PWRGD "Output Fault Indicator", 10 PH (power) "Power input", 12,39 PVIN (power) "Power input", 13,14 PH (power) "Power input", 15,16 PH (power) "Power input", 17,18 PH (power) "Power input", 19,42 PH (power) "Power input", 20,21 PGND (power) "Power input", 22 RT/CLK (power) "Power input", 25 ISHARE (power) "Power input", 26 VADJ (power) "Power input", 27 SENSE+ (in) "Power input", 28 SS/TR "Polarity selection", 29 STSEL "Polarity selection", 30 INH/UVLO "Polarity selection", 31,32 PGND (power) "Power input", 33 PGND (power) "Power input", 34,35 VOUT (power) "Power input", 36,37 VOUT (power) "Power input", 38,41 VOUT (power) "Power input", 40 PVIN (power) "Power input"

## LMZ12010
designator U?
4.5-V to 14-V Input, non-isolated, wide-output, adjustable power module; Ref: LMZ12010
footprint NDY MODULE (Texas Instrument NDY (S-PWSON-N6) package)
pins: 1,2 VIN (power) "Power input", 2 VIN (power) "Power input", 3,5,6 AGND (power) "Power input", 4 EN (in) "On/Off Control", 5 AGND (power) "Power input", 6 AGND (power) "Power input", 7 FB (in) "Feedback", 8 SS (in) "Feedback", 9 NC (hiz) "Do not conenct", 10,11 VOUT (power) "Power input", 11 VOUT (power) "Power input", EP PGND (power) "Ground"

## LP2992-5.0
designator U?
Micropower 250-mA Low-Noise Ultra-Low-Dropout Regulator; Ref: LP2992-5.0
footprint TSOT-23-5
pins: 1 IN (power) "Power input", 2 GND (power) "Ground", 3 EN (in) "Output Fault Indicator", 4 BP (power) "Output Fault Indicator", 5 OUT (power) "Power input"

## LP5907-1.8
designator U?, comment LP5907UVE-1.8/NOPB
250-mA 1.8V Ultra-Low-Noise, Low-IQ LDO; Ref: LP5907UVE-1.8/NOPB
footprint DSBGA (Ti DSBGA)
pins: A1 IN (power) "Power input", A2 OUT (power) "Power input", B1 EN (in) "Output Fault Indicator", B2 GND (power) "Ground"

## LP5907-2.5
designator U?, comment LP5907UVE-2.5/NOPB
250-mA 2.5V Ultra-Low-Noise, Low-IQ LDO; Ref: LP5907UVE-2.5/NOPB
footprint DSBGA (Ti DSBGA)
pins: A1 IN (power) "Power input", A2 OUT (power) "Power input", B1 EN (in) "Output Fault Indicator", B2 GND (power) "Ground"

## LP5907-3.3
designator U?, comment LP5907UVE-3.3/NOPB
250-mA 3.3V Ultra-Low-Noise, Low-IQ LDO; Ref: LP5907UVE-3.3/NOPB
footprint DSBGA (Ti DSBGA)
pins: A1 IN (power) "Power input", A2 OUT (power) "Power input", B1 EN (in) "Output Fault Indicator", B2 GND (power) "Ground"

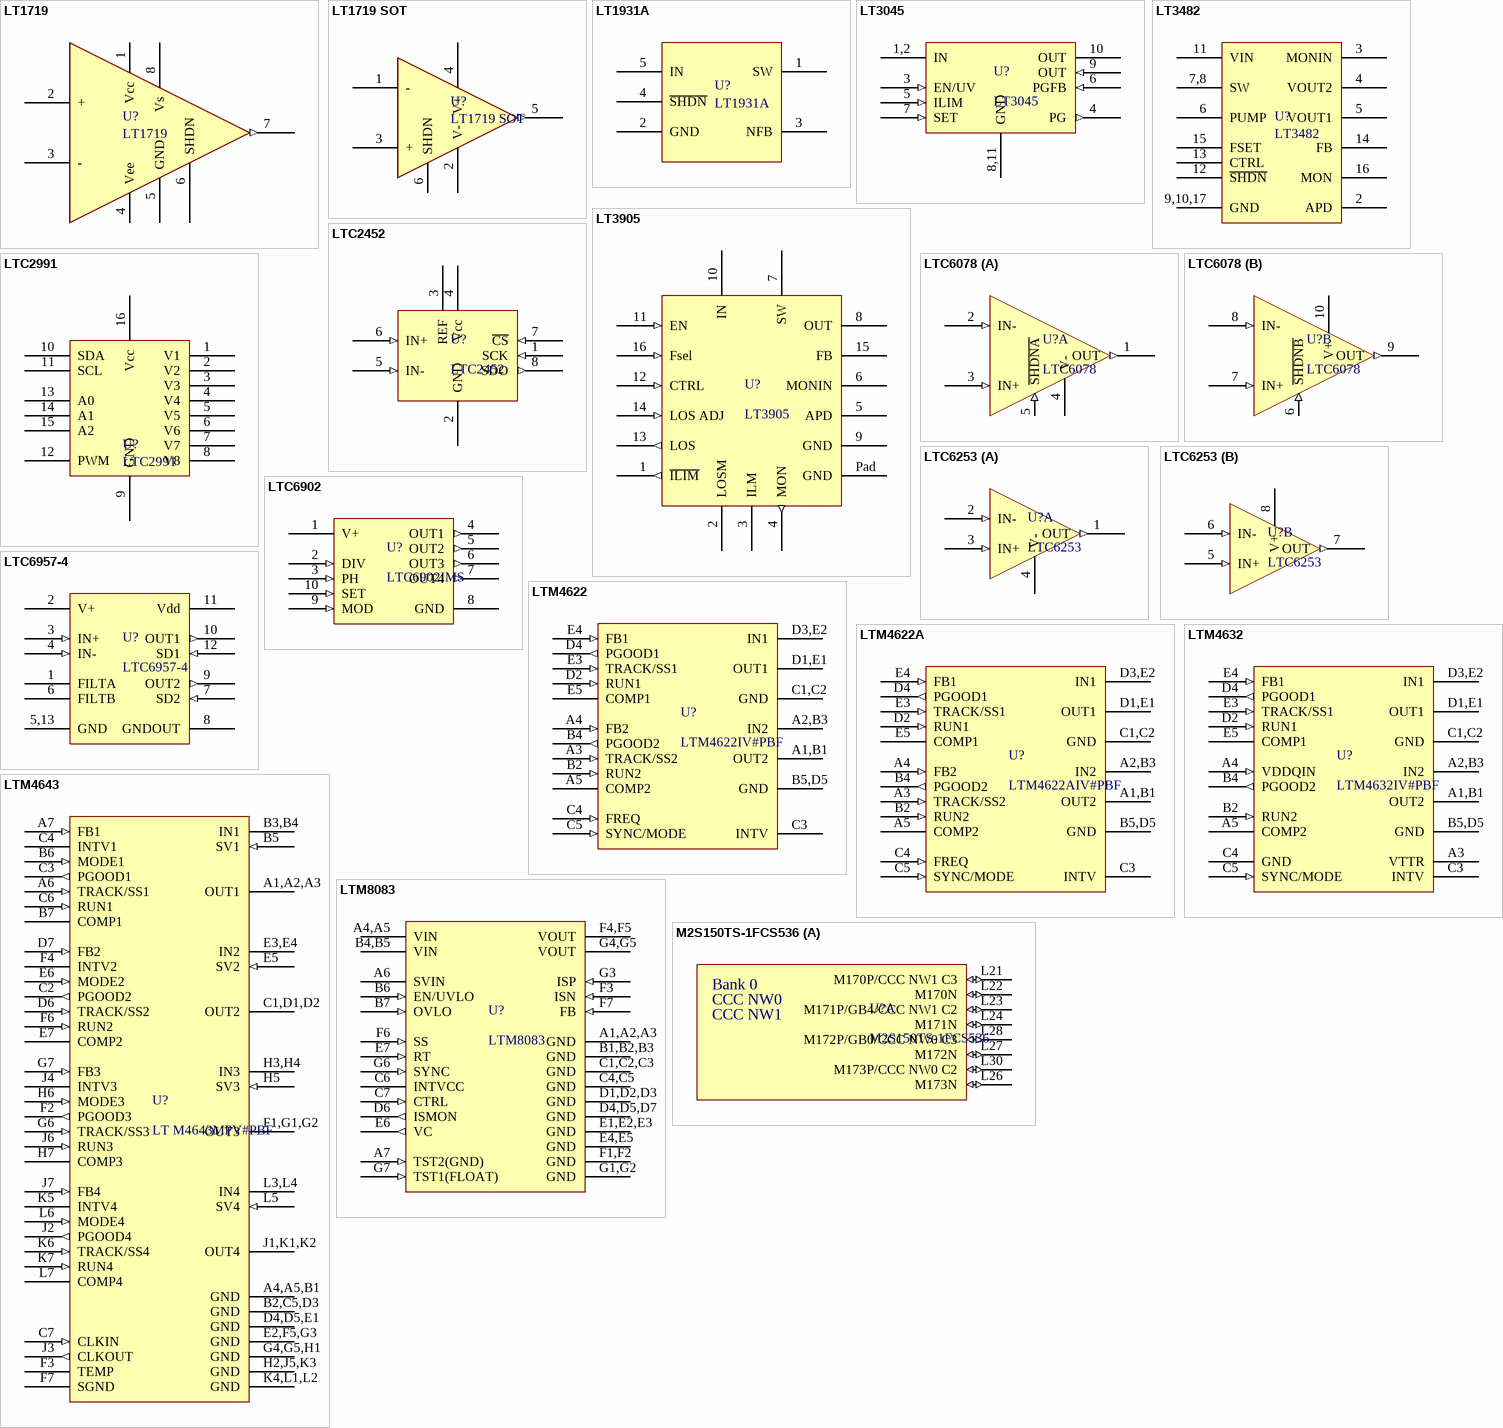
[diagram p3: symbols LT1719 to M2S150TS-1FCS536]

## LT1719
designator U?
4.5ns Comparator with rail-torail output; Ref: LT1719IS8#PBF
footprint SO-8 (SO-8 large pads)
pins: 1 Vcc, 2 + (hiz), 3 - (hiz), 4 Vee, 5 GND, 6 SHDN, 7 OUT (out), 8 Vs

## LT1719 SOT
designator U?
4.5ns Comparator with rail-torail output; Ref: LT1719IS6#PBF
footprint TSOT-23-6
pins: 1 - (hiz), 2 V-, 3 + (hiz), 4 V+, 5 OUT (out), 6 SHDN

## LT1931A
designator U?
2.2 MHz Inverting  DC/DC Converter; Ref: LT1931AIS5#PBF
footprint TSOT-23-5
pins: 1 SW, 2 GND, 3 NFB, 4 ~{SHDN}, 5 IN

## LT3045
designator U?
20V, 500mA, Ultralow Noise, Ultrahigh PSRR Linear Regulator; Ref: LT3045
footprint TDFN10 3x3 (Linear Tech DWG 05-08-1699 package)
pins: 1,2 IN (power) "Power input", 2 IN (power) "Power input", 3 EN/UV (in) "Output Fault Indicator", 4 PG (out) "Output Fault Indicator", 5 ILIM (in) "Output Fault Indicator", 6 PGFB (in) "Output Fault Indicator", 7 SET (in) "Output Fault Indicator", 8,11 GND (power) "Ground", 9 OUT (in) "Power input", 10 OUT (power) "Power input", 11 GND (power) "Ground"

## LT3482
designator U?
90V Boost DC/DC Converter with APD Current Monitor
footprint LFCSP CP 16 2 (Analog devive package LFCSP CP 16 2)
pins: 2 APD, 3 MONIN, 4 VOUT2, 5 VOUT1, 6 PUMP, 7,8 SW, 8 SW, 9,10,17 GND, 10 GND, 11 VIN, 12 ~{SHDN}, 13 CTRL, 14 FB, 15 FSET, 16 MON, 17 GND

## LT3905
designator U?
65V Boost DC/DC Converter with APD Current Monitor; Ref: LT3905
footprint LFCSP CP 16 2 (Analog devive package LFCSP CP 16 2)
pins: 1 ~{ILIM} (out) "Output Fault Indicator", 2 LOSM (power) "Power input", 3 ILM (power) "Power input", 4 MON (out) "Output Fault Indicator", 5 APD (power) "Power input", 6 MONIN (power) "Power input", 7 SW (power) "Power input", 8 OUT (power) "Power input", 9 GND (power) "Power input", 10 IN (power) "Power input", 11 EN (in) "Polarity selection", 12 CTRL (in) "Polarity selection", 13 LOS (out) "Output Fault Indicator", 14 LOS ADJ (in) "Polarity selection", 15 FB (power) "Power input", 16 Fsel (in) "Polarity selection", Pad GND (power) "Ground"

## LTC2452
designator U?
Ultra-Tiny, Differential, 16-Bit / ∆Σ ADC with SPI Interface; Ref: LTC2452
footprint TSOT-23-8
pins: 1 SCK (in) "On/Off Control", 2 GND (power) "Power input", 3 REF (power) "Power input", 4 Vcc (power) "Power input", 5 IN- (in) "On/Off Control", 6 IN+ (in) "On/Off Control", 7 ~{CS} (in) "On/Off Control", 8 SDO (out) "Output Fault Indicator"

## LTC2991
designator U?
Octal I²C Voltage Current and Temperature Monitor
footprint MSOP-16
pins: 1 V1, 2 V2, 3 V3, 4 V4, 5 V5, 6 V6, 7 V7, 8 V8, 9 GND, 10 SDA, 11 SCL, 12 PWM, 13 A0, 14 A1, 15 A2, 16 Vcc

## LTC6078
designator U?
Micropower Precision, Dual/Quad CMOS Rail-to-Rail Input/Output Amplifiers; Ref: LTC6078
footprint TDFN10 3x3 (Linear Tech DWG 05-08-1699 package)
part A pins: 1 OUT (out) "Power input", 2 IN- (in) "Polarity selection", 3 IN+ (in) "Polarity selection", 4 V- (power) "Power input", 5 ~{SHDNA} (in) "Power input", 11 V- (power) "Power input"
part B pins: 6 ~{SHDNB} (in) "Power input", 7 IN+ (in) "Polarity selection", 8 IN- (in) "Polarity selection", 9 OUT (out) "Power input", 10 V+ (power) "Power input"

## LTC6253
designator U?
720MHz, 3.5mA Power Efficient Rail-to-Rail I/O Op Amps; Ref: LTC6253
footprint TDFN8 2x2 (Linear Tech DWG 05-08-1719 package)
part A pins: 1 OUT (out) "Power input", 2 IN- (in) "Polarity selection", 3 IN+ (in) "Polarity selection", 4 V- (power) "Power input", 9 V- (power) "Power input"
part B pins: 5 IN+ (in) "Polarity selection", 6 IN- (in) "Polarity selection", 7 OUT (out) "Power input", 8 V+ (power) "Power input"

## LTC6902
designator U?, comment LTC6902IMS
Multiphase Oscillator with Spread Spectrum Frequency Modulation; Ref: LTC6902IMS
footprint MS10 (Linear Technologies MSOP 10)
pins: 1 V+ (power) "Power input", 2 DIV (in) "On/Off Control", 3 PH (in) "On/Off Control", 4 OUT1 (out) "Output Fault Indicator", 5 OUT2 (out) "Output Fault Indicator", 6 OUT3 (out) "Output Fault Indicator", 7 OUT4 (out) "Output Fault Indicator", 8 GND (power) "Power input", 9 MOD (in) "On/Off Control", 10 SET (in) "On/Off Control"

## LTC6957-4
designator U?
Low Phase Noise, Dual Output Buffer/Driver/Logic Converter; Ref: LTC6957-4
footprint TDFN12 3x3 - duplicate (Linear Tech DWG 05-08-1725 package)
pins: 1 FILTA (power) "Ground", 2 V+ (power) "Power input", 3 IN+ (in) "Output Fault Indicator", 4 IN- (in) "Output Fault Indicator", 5,13 GND (power) "Ground", 6 FILTB (power) "Ground", 7 SD2 (in) "Output Fault Indicator", 8 GNDOUT (power) "Ground", 9 OUT2 (out) "Output Fault Indicator", 10 OUT1 (out) "Output Fault Indicator", 11 Vdd (power) "Power input", 12 SD1 (in) "Output Fault Indicator", 13 GND (power) "Ground"

## LTM4622
designator U?, comment LTM4622IV#PBF
Dual Ultrathin 2.5A or Single 5A Step-Down DC/DC μModule Regulator; Ref: LTM4622IV#PBF
footprint LGA 25 (5x5 LGA)
pins: A1,B1 OUT2 (power) "Power input", A2,B3 IN2 (power) "Power input", A3 TRACK/SS2 (in) "Power input", A4 FB2 (in) "Power input", A5 COMP2 (power) "Power input", B1 OUT2 (power) "Power input", B2 RUN2 (in) "Power input", B3 IN2 (power) "Power input", B4 PGOOD2 (out) "Power input", B5,D5 GND (power) "Power input", C1,C2 GND (power) "Power input", C2 GND (power) "Power input", C3 INTV (power) "Power input", C4 FREQ (in) "Power input", C5 SYNC/MODE (in) "Power input", D1,E1 OUT1 (power) "Power input", D2 RUN1 (in) "Power input", D3,E2 IN1 (power) "Power input", D4 PGOOD1 (out) "Power input", D5 GND (power) "Power input", E1 OUT1 (power) "Power input", E2 IN1 (power) "Power input", E3 TRACK/SS1 (in) "Power input", E4 FB1 (in) "Power input", E5 COMP1 (power) "Power input"

## LTM4622A
designator U?, comment LTM4622AIV#PBF
Dual Ultrathin 2A or Single 4A Step-Down DC/DC μModule Regulator; Ref: LTM4622AIV#PBF
footprint LGA 25 (5x5 LGA)
pins: A1,B1 OUT2 (power) "Power input", A2,B3 IN2 (power) "Power input", A3 TRACK/SS2 (in) "Power input", A4 FB2 (in) "Power input", A5 COMP2 (power) "Power input", B1 OUT2 (power) "Power input", B2 RUN2 (in) "Power input", B3 IN2 (power) "Power input", B4 PGOOD2 (out) "Power input", B5,D5 GND (power) "Power input", C1,C2 GND (power) "Power input", C2 GND (power) "Power input", C3 INTV (power) "Power input", C4 FREQ (in) "Power input", C5 SYNC/MODE (in) "Power input", D1,E1 OUT1 (power) "Power input", D2 RUN1 (in) "Power input", D3,E2 IN1 (power) "Power input", D4 PGOOD1 (out) "Power input", D5 GND (power) "Power input", E1 OUT1 (power) "Power input", E2 IN1 (power) "Power input", E3 TRACK/SS1 (in) "Power input", E4 FB1 (in) "Power input", E5 COMP1 (power) "Power input"

## LTM4632
designator U?, comment LTM4632IV#PBF
Ultrathin, Triple Output, Step-Down μModule Regulator for DDR-QDR4 Memory; Ref: LTM4632IV#PBF
footprint LGA 25 (5x5 LGA)
pins: A1,B1 OUT2 (power) "Power input", A2,B3 IN2 (power) "Power input", A3 VTTR (power) "Poweroutput", A4 VDDQIN (in) "Power input", A5 COMP2 (power) "Power input", B1 OUT2 (power) "Power input", B2 RUN2 (in) "Power input", B3 IN2 (power) "Power input", B4 PGOOD2 (out) "Power input", B5,D5 GND (power) "Power input", C1,C2 GND (power) "Power input", C2 GND (power) "Power input", C3 INTV (power) "Power input", C4 GND (power) "Power input", C5 SYNC/MODE (in) "Power input", D1,E1 OUT1 (power) "Power input", D2 RUN1 (in) "Power input", D3,E2 IN1 (power) "Power input", D4 PGOOD1 (out) "Power input", D5 GND (power) "Power input", E1 OUT1 (power) "Power input", E2 IN1 (power) "Power input", E3 TRACK/SS1 (in) "Power input", E4 FB1 (in) "Power input", E5 COMP1 (power) "Power input"

## LTM4643
designator U?, comment LT M4643MPV#PBF
Ultrathin Quad μModule Regulator with Configurable 3A Output Array; Ref: LT M4643MPV#PBF
footprint LGA 77 (7x11 LGA)
pins: A1,A2,A3 OUT1 (power) "Power input", A4,A5,B1 GND (power) "Power input", A6 TRACK/SS1 (in) "Power input", A7 FB1 (in) "Power input", B2,C5,D3 GND (power) "Power input", B3,B4 IN1 (power) "Power input", B5 SV1 (in) "Power input", B6 MODE1 (in) "Power input", B7 COMP1 (power) "Power input", C1,D1,D2 OUT2 (power) "Power input", C2 PGOOD2 (out) "Power input", C3 PGOOD1 (out) "Power input", C4 INTV1 (power) "Power input", C6 RUN1 (in) "Power input", C7 CLKIN (in) "Power input", D4,D5,E1 GND (power) "Power input", D6 TRACK/SS2 (in) "Power input", D7 FB2 (in) "Power input", E2,F5,G3 GND (power) "Power input", E3,E4 IN2 (power) "Power input", E5 SV2 (in) "Power input", E6 MODE2 (in) "Power input", E7 COMP2 (power) "Power input", F1,G1,G2 OUT3 (power) "Power input", F2 PGOOD3 (out) "Power input", F3 TEMP (power) "Power input", F4 INTV2 (power) "Power input", F6 RUN2 (in) "Power input", F7 SGND (power) "Power input", G4,G5,H1 GND (power) "Power input", G6 TRACK/SS3 (in) "Power input", G7 FB3 (in) "Power input", H2,J5,K3 GND (power) "Power input", H3,H4 IN3 (power) "Power input", H5 SV3 (in) "Power input", H6 MODE3 (in) "Power input", H7 COMP3 (power) "Power input", J1,K1,K2 OUT4 (power) "Power input", J2 PGOOD4 (out) "Power input", J3 CLKOUT (out) "Power input", J4 INTV3 (power) "Power input", J6 RUN3 (in) "Power input", J7 FB4 (in) "Power input", K4,L1,L2 GND (power) "Power input", K5 INTV4 (power) "Power input", K6 TRACK/SS4 (in) "Power input", K7 RUN4 (in) "Power input", L3,L4 IN4 (power) "Power input", L5 SV4 (in) "Power input", L6 MODE4 (in) "Power input", L7 COMP4 (power) "Power input"

## LTM8083
designator U?
36V, 1.5A Buck-Boost / µModule Regulator; Ref: LTM8083
footprint BGA 49 (5x5 LGA)
pins: A1,A2,A3 GND (power) "Power input", A2 GND (power) "Power input", A3 GND (power) "Power input", A4,A5 VIN (power) "Power input", A5 VIN (power) "Power input", A6 SVIN (power) "Power input", A7 TST2(GND) (in) "Power input", B1,B2,B3 GND (power) "Power input", B2 GND (power) "Power input", B3 GND (power) "Power input", B4,B5 VIN (power) "Power input", B5 VIN (power) "Power input", B6 EN/UVLO (in) "Power input", B7 OVLO (in) "Power input", C1,C2,C3 GND (power) "Power input", C2 GND (power) "Power input", C3 GND (power) "Power input", C4,C5 GND (power) "Power input", C5 GND (power) "Power input", C6 INTVCC (power) "Power input", C7 CTRL (in) "Power input", D1,D2,D3 GND (power) "Power input", D2 GND (power) "Power input", D3 GND (power) "Power input", D4,D5,D7 GND (power) "Power input", D5 GND (power) "Power input", D6 ISMON (out) "Power input", D7 GND (power) "Power input", E1,E2,E3 GND (power) "Power input", E2 GND (power) "Power input", E3 GND (power) "Power input", E4,E5 GND (power) "Power input", E5 GND (power) "Power input", E6 VC (out) "Power input", E7 RT (in) "Power input", F1,F2 GND (power) "Power input", F2 GND (power) "Power input", F3 ISN (in) "Power input", F4,F5 VOUT (power) "Power input", F5 OUT1 (power) "Power input", F6 SS (in) "Power input", F7 FB (in) "Power input", G1,G2 GND (power) "Power input", G2 GND (power) "Power input", G3 ISP (in) "Power input", G4,G5 VOUT (power) "Power input", G5 OUT1 (power) "Power input", G6 SYNC (in) "Power input", G7 TST1(FLOAT) (in) "Power input"

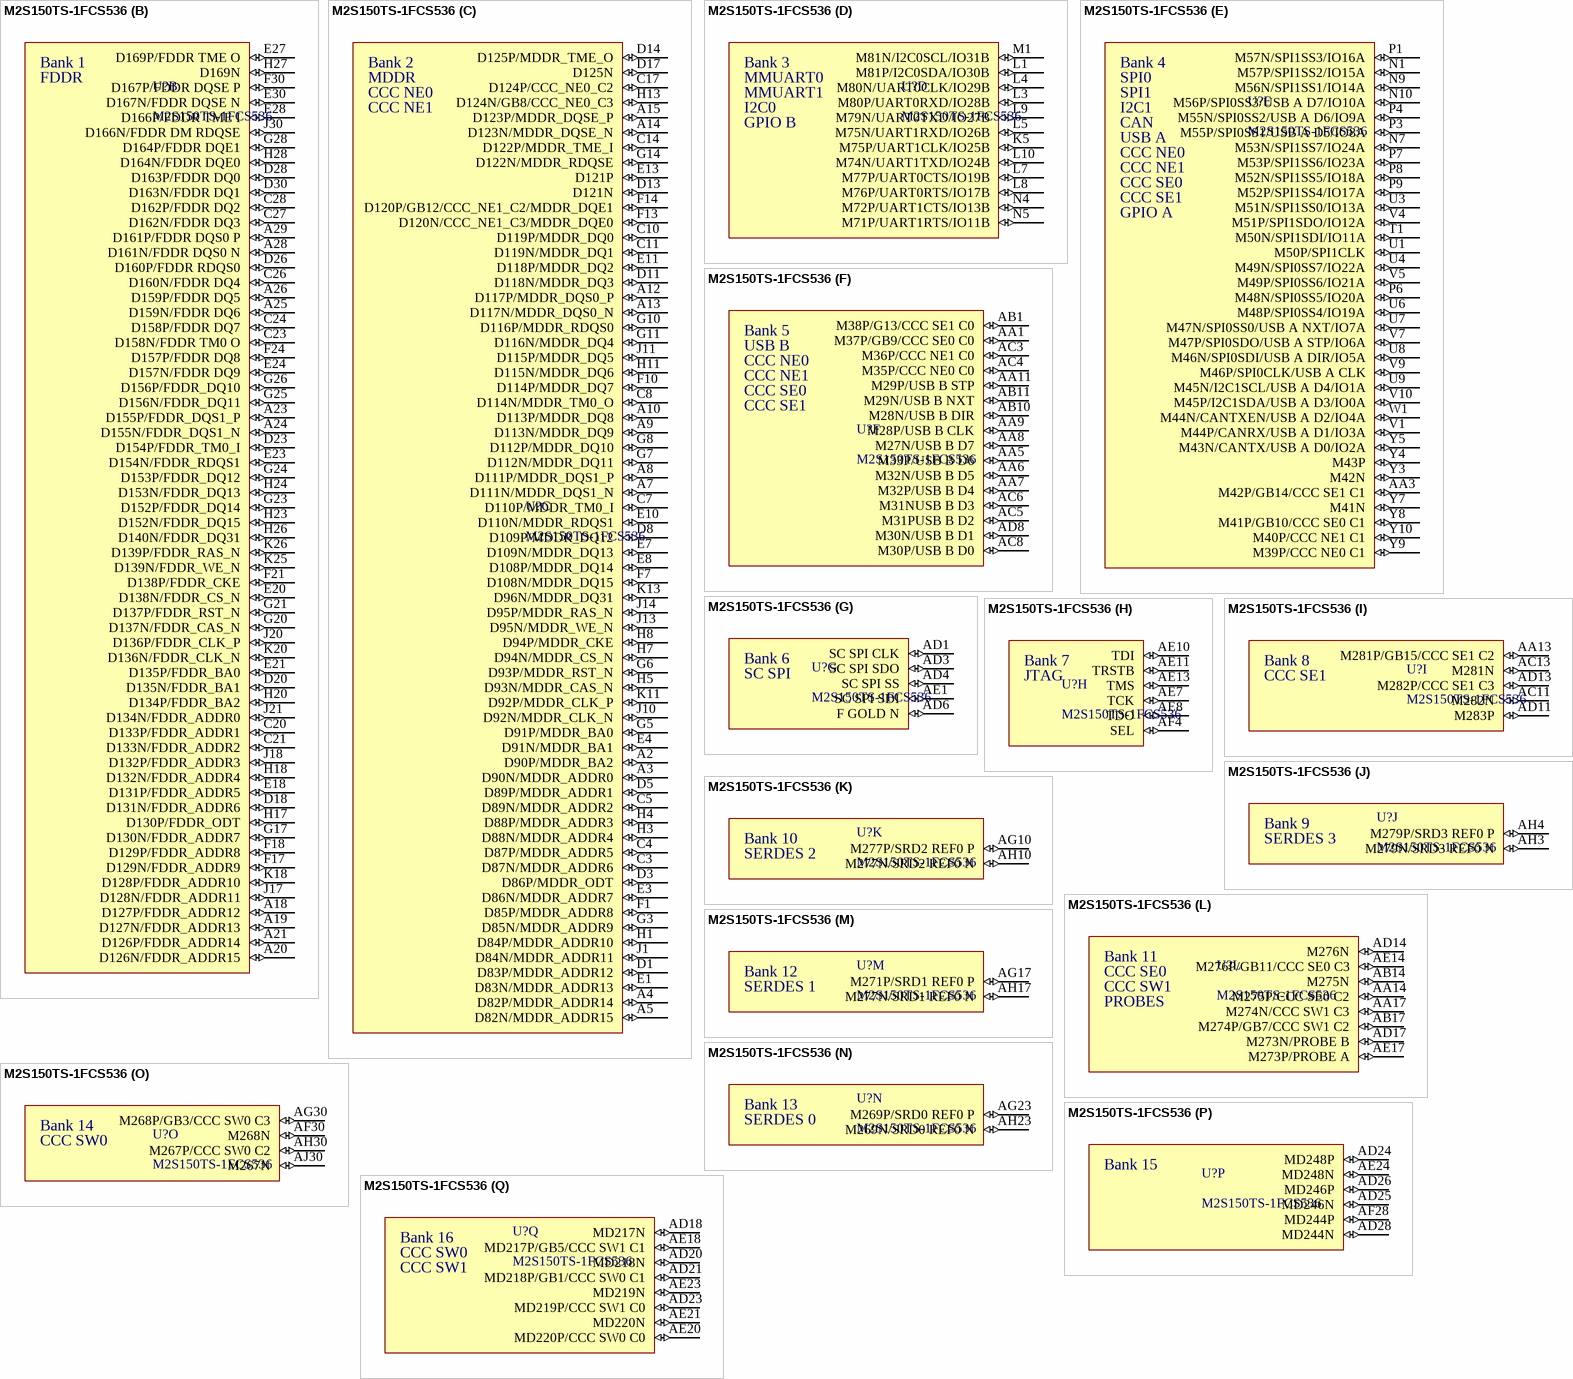
[diagram p4: symbol M2S150TS-1FCS536]

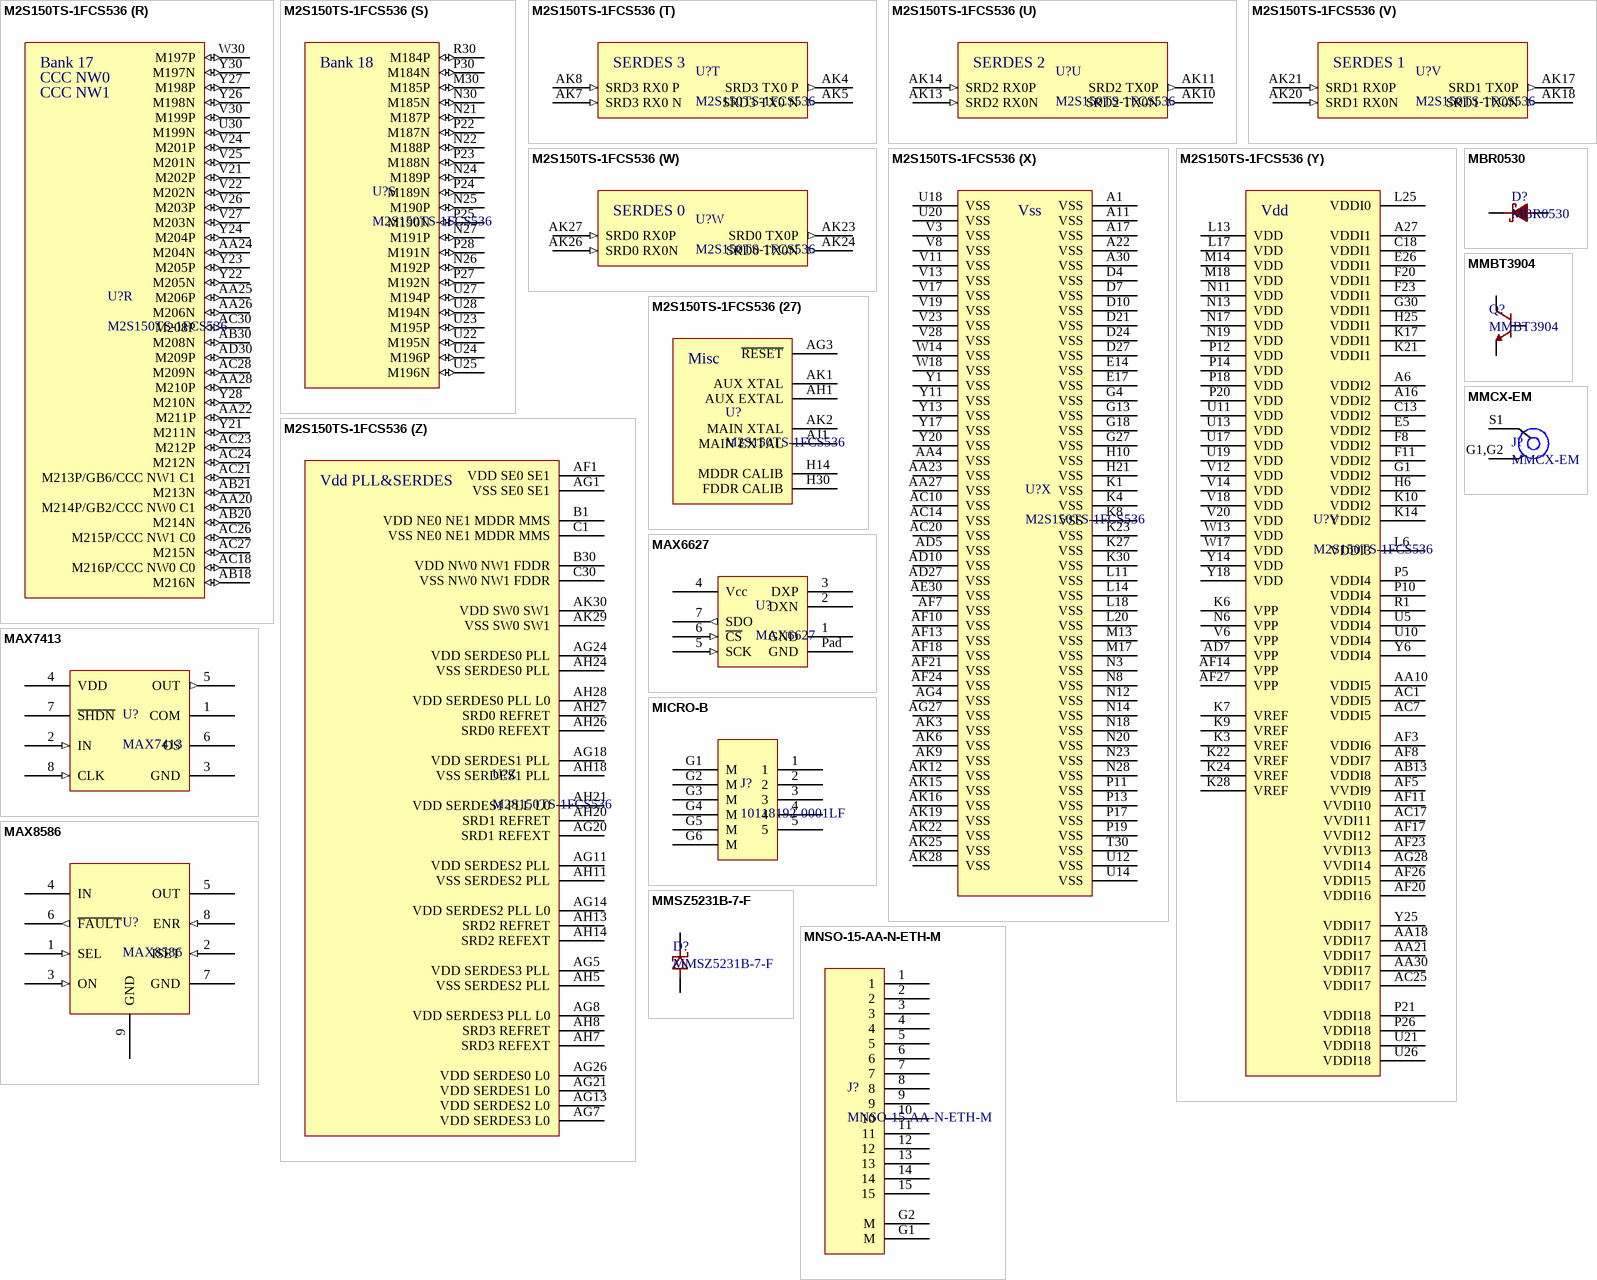
[diagram p5: symbols M2S150TS-1FCS536 to MNSO-15-AA-N-ETH-M]